# Altium schematic symbol library Symbol.SchLib: 1 symbol
Pins are listed as number, name and electrical type; pins without a type are passive.

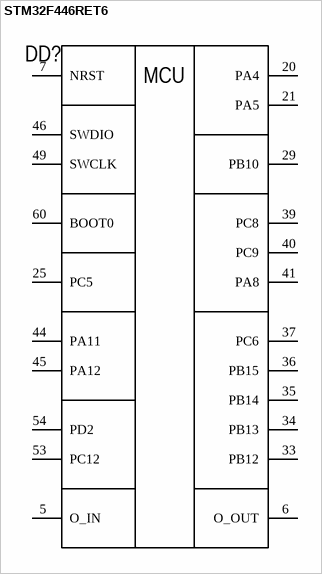
[diagram p0: symbol STM32F446RET6]

## STM32F446RET6
designator DD?  (value not drawn)
Arm® Cortex®-M4 32-bit MCU+FPU, 225 DMIPS, up to 512 KB Flash/128+4 KB RAM,  USB OTG HS/FS,  seventeen TIMs, three ADCs and twenty communication interfaces
footprint LQFP64 (LQFP, 64-Leads, Body 10.00x10.00 mm, IPC Medium Density)
pins: 5 O_IN, 6 O_OUT, 7 NRST, 20 PA4, 21 PA5, 25 PC5, 29 PB10, 33 PB12, 34 PB13, 35 PB14, 36 PB15, 37 PC6, 39 PC8, 40 PC9, 41 PA8, 44 PA11, 45 PA12, 46 SWDIO, 49 SWCLK, 53 PC12, 54 PD2, 60 BOOT0
text: MCU